# Altium footprint library Connectors.PcbLib: 86 footprints (part 6 of 6)
Each footprint in its own frame and in the unit in brackets; x right, y up, seen from the top. Pads: shape width x height; smd on the part's side, far side on the other; paste and mask are expansions set on the pad; w line width, h text height; cw(c..) or ccw(c..) is an arc to the next point about the centre after c.
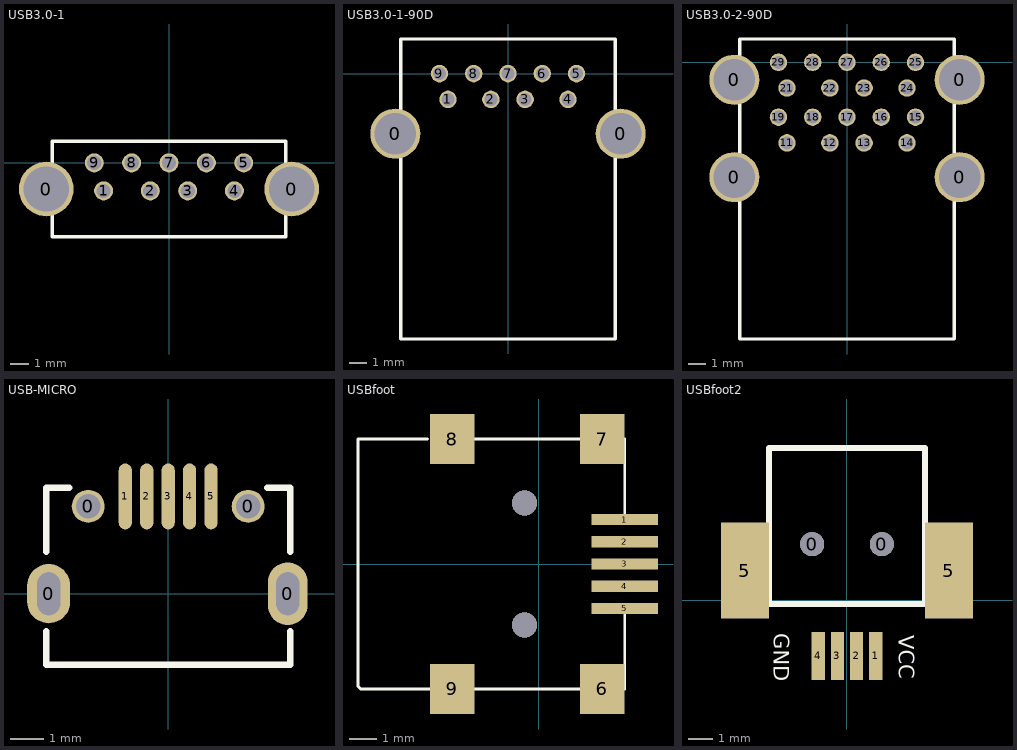
[diagram p5: the footprints below, top view; thin cyan lines are the x and y axes]

## USB3.0-1 [mil]
height 600
pads (11):
  round 115 hole 95: 0(-258.66,-55.12) 0(258.66,-55.12)
  round 40 hole 30: 1(-137.8,-59.06) 2(-39.37,-59.06) 3(39.37,-59.06) 4(137.8,-59.06) 5(157.48,0) 6(78.74,0) 7(0,0) 8(-78.74,0) 9(-157.48,0)
Top Overlay:
  lines w7.87: -246.06,-155.91 246.06,-155.91 246.06,45.67 -246.06,45.67 -246.06,-155.91

## USB3.0-1-90D [mil]
height 350
pads (11):
  round 115 hole 95: 0(-258.66,-137.8) 0(258.66,-137.8)
  round 40 hole 30: 1(-137.8,-59.06) 2(-39.37,-59.06) 3(39.37,-59.06) 4(137.8,-59.06) 5(157.48,0) 6(78.74,0) 7(0,0) 8(-78.74,0) 9(-157.48,0)
Top Overlay:
  lines w7.87: -246.06,-609.45 -246.06,79.53 246.06,79.53 246.06,-609.45 -246.06,-609.45

## USB3.0-2-90D [mil]
height 700
pads (22):
  round 115 hole 95: 0(-258.66,-263.78) 0(-258.66,-40.16) 0(258.66,-263.78) 0(258.66,-40.16)
  round 40 hole 30: 11(-137.8,-185.04) 12(-39.37,-185.04) 13(39.37,-185.04) 14(137.8,-185.04) 15(157.48,-125.98) 16(78.74,-125.98) 17(0,-125.98) 18(-78.74,-125.98) 19(-157.48,-125.98) 21(-137.8,-59.06) 22(-39.37,-59.06) 23(39.37,-59.06) 24(137.8,-59.06) 25(157.48,0) 26(78.74,0) 27(0,0) 28(-78.74,0) 29(-157.48,0)
Top Overlay:
  lines w7.87: -246.06,-635.43 246.06,-635.43 246.06,53.54 -246.06,53.54 -246.06,-635.43

## USB-MICRO [mm] "USB方孔"
height 8
pads (9):
  oval 1.3x1.8 hole 0.7 slot 1.3 at 90 deg: 0(-3.625,0)
  round 1 hole 0.75: 0(-2.425,2.65) 0(2.425,2.65)
  oval 1.2x1.9 hole 0.7 slot 1.3 at 90 deg: 0(3.625,0)
  oval 0.4x2 smd: 1(-1.3,2.95) 2(-0.65,2.95) 3(0,2.95) 4(0.65,2.95) 5(1.3,2.95)
Top Overlay:
  lines w0.2: -3.7,-1.143 -3.7,-2.15 3.7,-2.15 3.7,-1.143 ; -3.7,1.27 -3.7,3.21 -3,3.21 ; 3,3.21 3.7,3.21 3.7,1.27

## USBfoot [mm]
pads (9):
  rect 2.4x0.4 smd: 1(3.1,1.6) 2(3.1,0.8) 3(3.1,0) 4(3.1,-0.8) 5(3.1,-1.6)
  rect 1.6x1.8 smd: 6(2.3,-4.5) 7(2.3,4.5) 8(-3.1,4.5) 9(-3.1,-4.5)
via -0.5,-2.2 diameter 0.9 hole 0.9
via -0.5,2.2 diameter 0.9 hole 0.9
Top Overlay:
  lines w0.1: -4,4.5 -6.5,4.5 -6.5,-4.4 -6.4,-4.5 -3.9,-4.5 ; -2.3,-4.5 1.5,-4.5 ; -2.3,4.5 1.5,4.5 ; 3.1,-4.5 3.1,-1.8 ; 3.1,1.8 3.1,4.5

## USBfoot2 [mm]
pads (8):
  round 1 hole 1: 0(-1.45,2.325) 0(1.45,2.325)
  rect 0.55x2 smd: 1(1.2,-2.325) 2(0.4,-2.325) 3(-0.4,-2.325) 4(-1.2,-2.325)
  rect 2x4 smd: 5(-4.25,1.225) 5(4.25,1.225)
Top Overlay:
  lines w0.254: -3.25,-0.175 3.25,-0.175 3.25,6.325 -3.25,6.325 -3.25,-0.175
  text "GND" at -3.05,-1.375 h0.64
  text "VCC" at 2.15,-1.475 h0.64